# Altium footprint library Sound Microphone.PcbLib: 1 footprints
Each footprint in its own frame and in the unit in brackets; x right, y up, seen from the top. Pads: shape width x height; smd on the part's side, far side on the other; paste and mask are expansions set on the pad; w line width, h text height; cw(c..) or ccw(c..) is an arc to the next point about the centre after c.
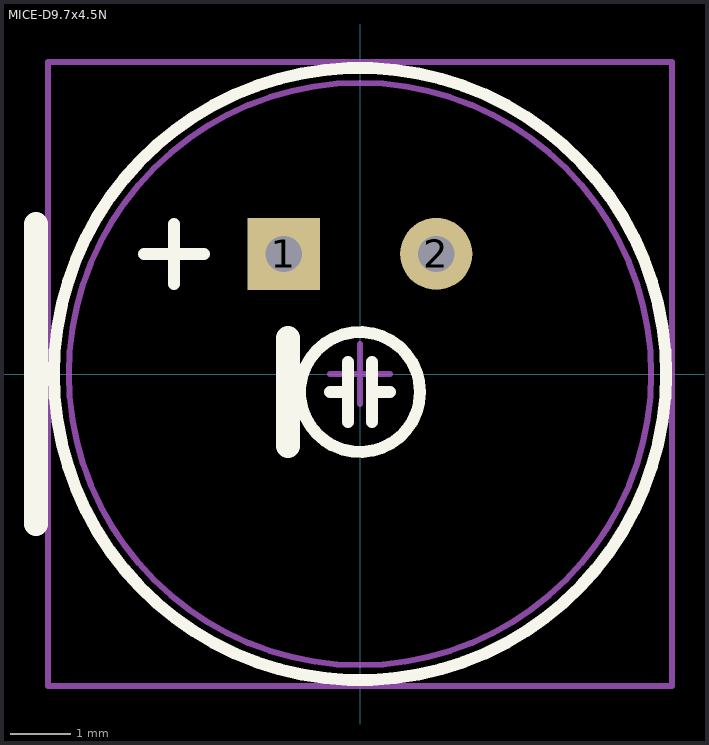
[diagram p0: the footprint, top view; thin cyan lines are the x and y axes]

## MICE-D9.7x4.5N [mm] "Mcrophone electret d9.7x4.5mm"
height 4.5
pads (2):
  rect 1.2x1.2 hole 0.6: 1(-1.27,2)
  round 1.2 hole 0.6: 2(1.27,2)
Top Overlay:
  circle w0.2: c0,0 r5.1
  circle w0.2: c0,-0.3 r1
  lines w0.2: -3.6,2 -2.6,2 ; -3.1,1.5 -3.1,2.5 ; -0.5,-0.3 -0.2,-0.3 ; -0.2,-0.8 -0.2,0.2 ; 0.2,-0.8 0.2,0.2 ; 0.2,-0.3 0.5,-0.3
  lines w0.4: -5.4,-2.5 -5.4,2.5 ; -1.2,-1.2 -1.2,0.6
Top Package:
  circle w0.1: c0,-0.3 r1
  circle w0.1: c1.27,2 r0.4
  circle w0.1: c-1.27,2 r0.4
  circle w0.1: c0,0 r4.85
  lines w0.1: -3.6,2 -2.6,2 ; -3.1,1.5 -3.1,2.5 ; -0.5,-0.3 -0.2,-0.3 ; -0.2,-0.8 -0.2,0.2 ; 0.2,-0.8 0.2,0.2 ; 0.2,-0.3 0.5,-0.3
  lines w0.2: -1.1,-1.2 -1.1,0.6
Top Border:
  circle w0.1: c0,0 r5.1
  lines w0.1: -0.5,0 0.5,0 ; 0,-0.5 0,0.5 ; -5.2,-5.2 5.2,-5.2 5.2,5.2 -5.2,5.2 -5.2,-5.2
3D body "Electret microphone d9.7x4.5mm.stp": height 5, standoff -4.2, extent -4.85,-4.85 4.85,4.85